# Altium footprint library MSOP-8.PcbLib: 1 footprints
Each footprint in its own frame and in the unit in brackets; x right, y up, seen from the top. Pads: shape width x height; smd on the part's side, far side on the other; paste and mask are expansions set on the pad; w line width, h text height; cw(c..) or ccw(c..) is an arc to the next point about the centre after c.
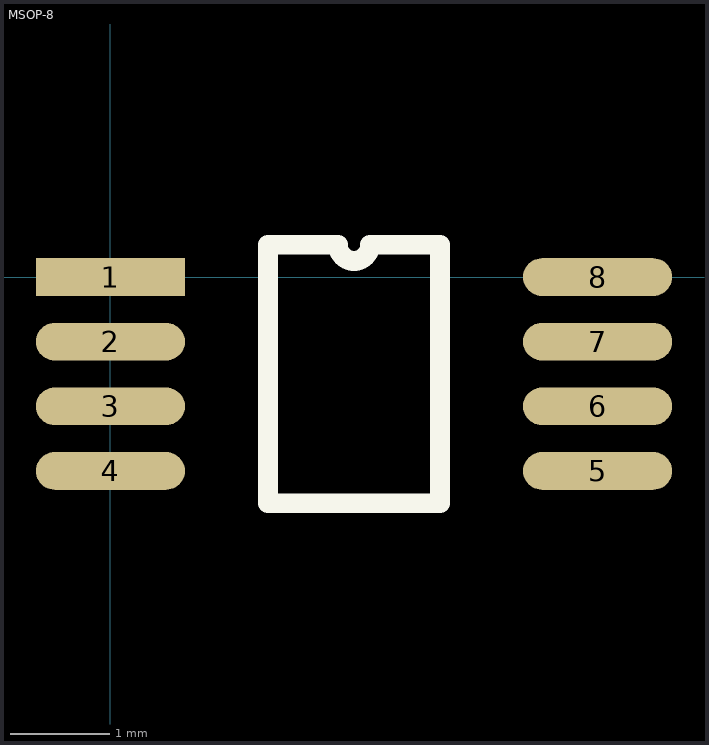
[diagram p0: the footprint, top view; thin cyan lines are the x and y axes]

## MSOP-8 [mm]
pads (8):
  rect 1.5x0.38 smd: 1(0,0)
  oval 1.5x0.38 smd: 2(0,-0.65) 3(0,-1.3) 4(0,-1.95) 5(4.9,-1.95) 6(4.9,-1.3) 7(4.9,-0.65) 8(4.9,0)
Top Overlay:
  lines w0.2: 1.585,-2.275 1.585,0.325 2.288,0.325 ccw(c2.45,0.325) 2.612,0.325 3.315,0.325 3.315,-2.275 1.585,-2.275
3D body: height 12, standoff 2, extent 2.3,-0.6 2.3,-0.6
3D body: height 12, standoff 2, extent 0,0 0,0
3D body "MSOP-8.STEP": height 1.05, standoff -0.02, extent -0.06,-2.475 4.961,0.525